# Altium integrated library PCB_Project.IntLib: 46 symbols
Pins are listed as number, name and electrical type; pins without a type are passive.

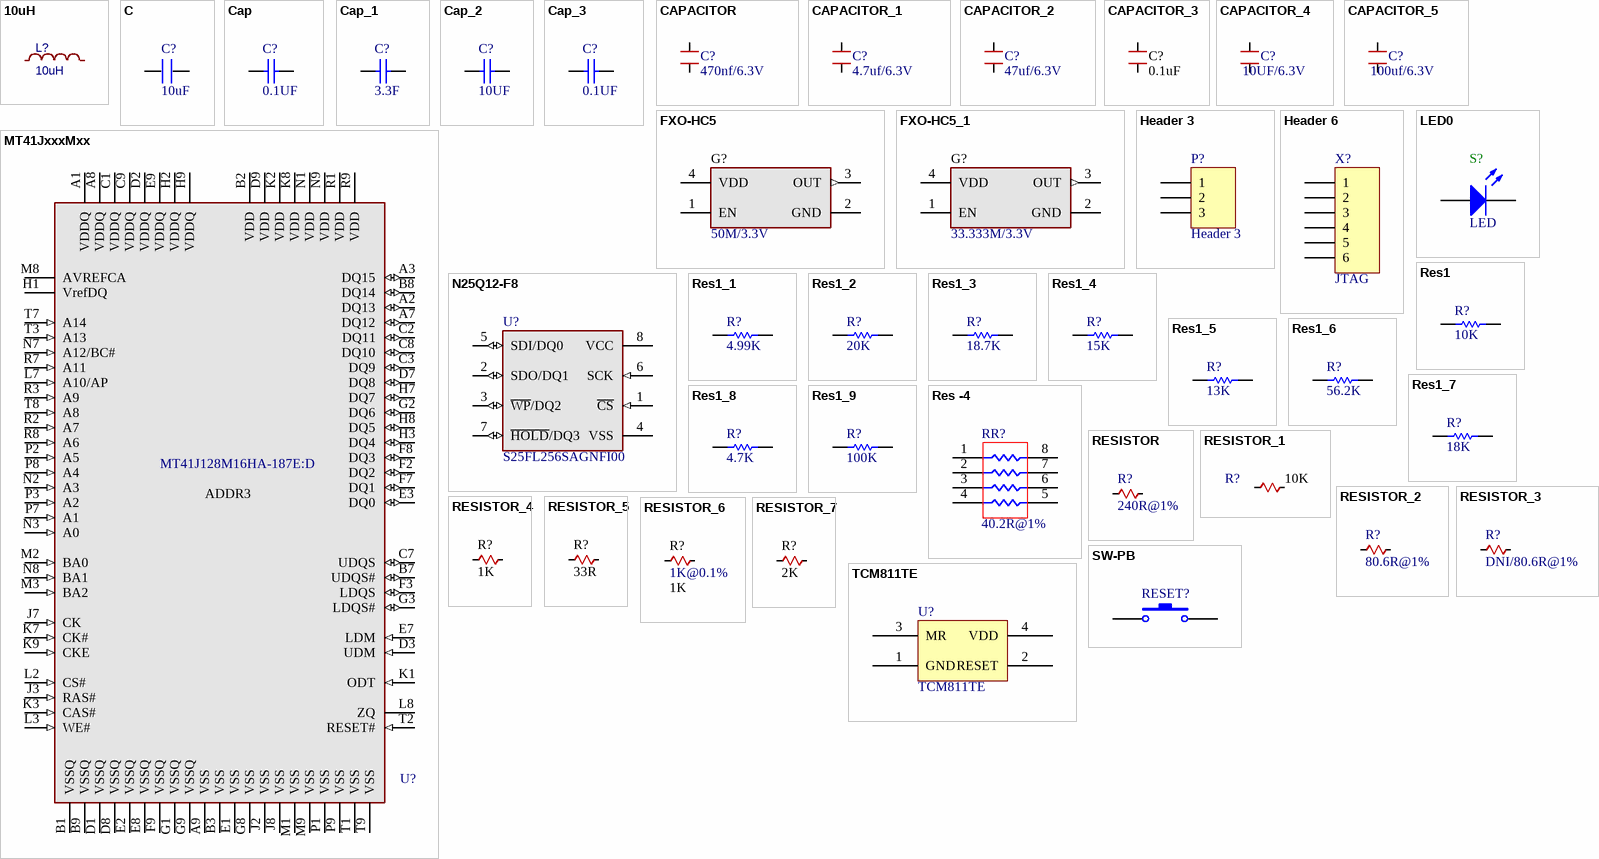
[diagram p0: symbols 10uH to TCM811TE]

## 10uH
designator L?
BOM_Manufacturer: Sunlord; BOM_Manufacturer Part: MPL2520S100MWT; nameAlias: Inductance; Contributor: LCSC; BOM_Supplier: LCSC; BOM_Supplier Part: C370039; spicePre: L; spiceSymbolName: MPL2520S100MWT
footprint L1008
pins: 1, 2

## C
designator C?, comment 10uF
footprint C0805
pins: 1, 2

## Cap
designator C?, comment 0.1UF
Capacitor; Value: 3.3nF; Published: 8-Jun-2000; LatestRevisionDate: 17-Jul-2002; LatestRevisionNote: Re-released for DXP Platform.; PackageReference: RAD-0.3; Publisher: Altium Limited; PackageDescription: Radial Cap, Thru-Hole; 2 Leads; 0.3 in Pin Spacing
simulation model CAP (Capacitor)
signal-integrity model Cap
footprint 0402 (Chip Capacitor, Body 1.0x0.5mm, IPC High Density)
pins: 1, 2

## Cap_1
designator C?, comment 3.3F
Capacitor; Value: 3.3nF; Published: 8-Jun-2000; LatestRevisionDate: 17-Jul-2002; LatestRevisionNote: Re-released for DXP Platform.; PackageReference: RAD-0.3; Publisher: Altium Limited; PackageDescription: Radial Cap, Thru-Hole; 2 Leads; 0.3 in Pin Spacing
simulation model CAP (Capacitor)
signal-integrity model Cap
footprint 0402 (Chip Capacitor, Body 1.0x0.5mm, IPC High Density)
pins: 1, 2

## Cap_2
designator C?, comment 10UF
Capacitor; Published: 8-Jun-2000; LatestRevisionDate: 17-Jul-2002; LatestRevisionNote: Re-released for DXP Platform.; PackageReference: RAD-0.3; Publisher: Altium Limited; PackageDescription: Radial Cap, Thru-Hole; 2 Leads; 0.3 in Pin Spacing; Value: 10UF
simulation model CAP (Capacitor)
signal-integrity model Cap
footprint 0402 (Chip Capacitor, Body 1.0x0.5mm, IPC High Density)
pins: 1, 2

## Cap_3
designator C?, comment 0.1UF
Capacitor; Published: 8-Jun-2000; LatestRevisionDate: 17-Jul-2002; LatestRevisionNote: Re-released for DXP Platform.; PackageReference: RAD-0.3; Publisher: Altium Limited; PackageDescription: Radial Cap, Thru-Hole; 2 Leads; 0.3 in Pin Spacing; Value: 0.1UF
simulation model CAP (Capacitor)
signal-integrity model Cap
footprint 0402 (Chip Capacitor, Body 1.0x0.5mm, IPC High Density)
pins: 1, 2

## CAPACITOR
designator C?, comment 470nf/6.3V
Generic Capacitor; DPN: *; Manufacturer: *
footprint 0402 (Chip Capacitor, Body 1.0x0.5mm, IPC High Density)
pins: 1, 2

## CAPACITOR_1
designator C?, comment 4.7uf/6.3V
Generic Capacitor; DPN: *; Manufacturer: *
footprint 0402 (Chip Capacitor, Body 1.0x0.5mm, IPC High Density)
pins: 1, 2

## CAPACITOR_2
designator C?, comment 47uf/6.3V
Generic Capacitor; DPN: *; Manufacturer: *
footprint 0402 (Chip Capacitor, Body 1.0x0.5mm, IPC High Density)
pins: 1, 2

## CAPACITOR_3
designator C?, comment 0.1UF
Generic Capacitor; DPN: *; Manufacturer: *; Value: 0.1uF
footprint 0402 (Chip Capacitor, Body 1.0x0.5mm, IPC High Density)
pins: 1, 2

## CAPACITOR_4
designator C?, comment 10UF/6.3V
Generic Capacitor; DPN: *; Manufacturer: *
footprint 0402 (Chip Capacitor, Body 1.0x0.5mm, IPC High Density)
pins: 1, 2

## CAPACITOR_5
designator C?, comment 100uf/6.3V
Generic Capacitor; DPN: *; Manufacturer: *
footprint 0805 (Footprint not found)
pins: 1, 2

## FXO-HC5
designator G?, comment 50M/3.3V
3.3V HCMOS Oscillator; Manufacturer: Fox Electronics; Value: 33.33MHz; DPN: *
footprint 3.2*2.5 (Footprint not found)
pins: 1 EN, 2 GND (power), 3 OUT (out), 4 VDD (power)

## FXO-HC5_1
designator G?, comment 33.333M/3.3V
3.3V HCMOS Oscillator; Manufacturer: Fox Electronics; Value: 33.33MHz; DPN: *
footprint 3.2*2.5 (Footprint not found)
pins: 1 EN, 2 GND (power), 3 OUT (out), 4 VDD (power)

## Header 3
designator P?
Header, 3-Pin; LatestRevisionDate: 17-Jul-2002; LatestRevisionNote: Re-released for DXP Platform.; Publisher: Altium Limited
footprint HDR1X3 (Connector; Header; 3 Position)
signal-integrity model Connector
pins: 1, 2, 3

## Header 6
designator X?, comment JTAG
Header, 6-Pin; LatestRevisionDate: 17-Jul-2002; LatestRevisionNote: Re-released for DXP Platform.; Publisher: Altium Limited
signal-integrity model 1.27*6
footprint 1.27*6 (Footprint not found)
pins: 1, 2, 3, 4, 5, 6

## LED0
designator S?, comment LED
Typical INFRARED GaAs LED; Published: 8-Jun-2000; LatestRevisionDate: 08-Jul-2005; LatestRevisionNote: Mech Layer 1 removed.; PackageReference: LED-0; Publisher: Altium Limited; PackageDescription: LED; 2 Leads
footprint LED-0 (LED; 2 Leads)
simulation model LED0 (Diode)
footprint 0603
footprint D0402 (Footprint not found)
pins: 1 A, 2 K

## MT41JxxxMxx
designator U?, comment MT41J128M16HA-187E:D
DDR3 SDRAM 2Gb x4, x8, x16; Manufacturer: Micron; DPN: *
footprint FBGA96
pins: A1 VDDQ (power), A2 DQ13 (io), A3 DQ15 (io), A7 DQ12 (io), A8 VDDQ (power), A9 VSS (power), B1 VSSQ (power), B2 VDD (power), B3 VSS (power), B7 UDQS# (io), B8 DQ14 (io), B9 VSSQ (power), C1 VDDQ (power), C2 DQ11 (io), C3 DQ9 (io), C7 UDQS (io), C8 DQ10 (io), C9 VDDQ (power), D1 VSSQ (power), D2 VDDQ (power), D3 UDM (in), D7 DQ8 (io), D8 VSSQ (power), D9 VDD (power), E1 VSS (power), E2 VSSQ (power), E3 DQ0 (io), E7 LDM (in), E8 VSSQ (power), E9 VDDQ (power), F2 DQ2 (io), F3 LDQS (io), F7 DQ1 (io), F8 DQ3 (io), F9 VSSQ (power), G1 VSSQ (power), G2 DQ6 (io), G3 LDQS# (io), G8 VSS (power), G9 VSSQ (power), H1 VrefDQ (power), H2 VDDQ (power), H3 DQ4 (io), H7 DQ7 (io), H8 DQ5 (io), H9 VDDQ (power), J2 VSS (power), J3 RAS# (in), J7 CK (in), J8 VSS (power), K1 ODT (in), K2 VDD (power), K3 CAS# (in), K7 CK# (in), K8 VDD (power), K9 CKE (in), L2 CS# (in), L3 WE# (in), L7 A10/AP (in), L8 ZQ, M1 VSS (power), M2 BA0 (in), M3 BA2 (in), M8 AVREFCA (power), M9 VSS (power), N1 VDD (power), N2 A3 (in), N3 A0 (in), N7 A12/BC# (in), N8 BA1 (in), N9 VDD (power), P1 VSS (power), P2 A5 (in), P3 A2 (in), P7 A1 (in), P8 A4 (in), P9 VSS (power), R1 VDD (power), R2 A7 (in), R3 A9 (in), R7 A11 (in), R8 A6 (in), R9 VDD (power), T1 VSS (power), T2 RESET# (in), T3 A13 (in), T7 A14 (in), T8 A8 (in), T9 VSS (power)
text: ADDR3

## N25Q12-F8
designator U?, comment S25FL256SAGNFI00
Serial Flash Memory, 16Mbit, Low Voltage, 50MHz SPI Bus Interface; Manufacturer: Spansion; DPN: *
footprint MLP8
pins: 1 ~{CS} (in), 2 SDO/DQ1 (io), 3 ~{WP}/DQ2 (io), 4 VSS (power), 5 SDI/DQ0 (io), 6 SCK (in), 7 ~{HOLD}/DQ3 (io), 8 VCC (power)

## Res1
designator R?, comment 10K
Resistor; Published: 8-Jun-2000; LatestRevisionDate: 17-Jul-2002; LatestRevisionNote: Re-released for DXP Platform.; PackageReference: AXIAL-0.3; Publisher: Altium Limited; PackageDescription: Axial Device, Thru-Hole; 2 Leads; 0.3 in Pin Spacing; Value: 10K
footprint 0402 (Chip Capacitor, Body 1.0x0.5mm, IPC High Density)
simulation model RESISTOR (Resistor)
signal-integrity model Res
pins: 1, 2

## Res1_1
designator R?, comment 4.99K
Resistor; Published: 8-Jun-2000; LatestRevisionDate: 17-Jul-2002; LatestRevisionNote: Re-released for DXP Platform.; PackageReference: AXIAL-0.3; Publisher: Altium Limited; PackageDescription: Axial Device, Thru-Hole; 2 Leads; 0.3 in Pin Spacing; Value: 4.99K
footprint 0402 (Chip Capacitor, Body 1.0x0.5mm, IPC High Density)
simulation model RESISTOR (Resistor)
signal-integrity model Res
pins: 1, 2

## Res1_2
designator R?, comment 20K
Resistor; Published: 8-Jun-2000; LatestRevisionDate: 17-Jul-2002; LatestRevisionNote: Re-released for DXP Platform.; PackageReference: AXIAL-0.3; Publisher: Altium Limited; PackageDescription: Axial Device, Thru-Hole; 2 Leads; 0.3 in Pin Spacing; Value: 20K
footprint 0402 (Chip Capacitor, Body 1.0x0.5mm, IPC High Density)
simulation model RESISTOR (Resistor)
signal-integrity model Res
pins: 1, 2

## Res1_3
designator R?, comment value 18.7K  (hidden comment: 4.99K)
Resistor; Published: 8-Jun-2000; LatestRevisionDate: 17-Jul-2002; LatestRevisionNote: Re-released for DXP Platform.; PackageReference: AXIAL-0.3; Publisher: Altium Limited; PackageDescription: Axial Device, Thru-Hole; 2 Leads; 0.3 in Pin Spacing
footprint 0402 (Chip Capacitor, Body 1.0x0.5mm, IPC High Density)
simulation model RESISTOR (Resistor)
signal-integrity model Res
pins: 1, 2

## Res1_4
designator R?, comment 15K
Resistor; Published: 8-Jun-2000; LatestRevisionDate: 17-Jul-2002; LatestRevisionNote: Re-released for DXP Platform.; PackageReference: AXIAL-0.3; Publisher: Altium Limited; PackageDescription: Axial Device, Thru-Hole; 2 Leads; 0.3 in Pin Spacing; Value: 15K
footprint 0402 (Chip Capacitor, Body 1.0x0.5mm, IPC High Density)
simulation model RESISTOR (Resistor)
signal-integrity model Res
pins: 1, 2

## Res1_5
designator R?, comment value 13K  (hidden comment: 4.99K)
Resistor; Published: 8-Jun-2000; LatestRevisionDate: 17-Jul-2002; LatestRevisionNote: Re-released for DXP Platform.; PackageReference: AXIAL-0.3; Publisher: Altium Limited; PackageDescription: Axial Device, Thru-Hole; 2 Leads; 0.3 in Pin Spacing
footprint 0402 (Chip Capacitor, Body 1.0x0.5mm, IPC High Density)
simulation model RESISTOR (Resistor)
signal-integrity model Res
pins: 1, 2

## Res1_6
designator R?, comment value 56.2K  (hidden comment: 4.99K)
Resistor; Published: 8-Jun-2000; LatestRevisionDate: 17-Jul-2002; LatestRevisionNote: Re-released for DXP Platform.; PackageReference: AXIAL-0.3; Publisher: Altium Limited; PackageDescription: Axial Device, Thru-Hole; 2 Leads; 0.3 in Pin Spacing
footprint 0402 (Chip Capacitor, Body 1.0x0.5mm, IPC High Density)
simulation model RESISTOR (Resistor)
signal-integrity model Res
pins: 1, 2

## Res1_7
designator R?, comment value 18K  (hidden comment: 15K)
Resistor; Published: 8-Jun-2000; LatestRevisionDate: 17-Jul-2002; LatestRevisionNote: Re-released for DXP Platform.; PackageReference: AXIAL-0.3; Publisher: Altium Limited; PackageDescription: Axial Device, Thru-Hole; 2 Leads; 0.3 in Pin Spacing
footprint 0402 (Chip Capacitor, Body 1.0x0.5mm, IPC High Density)
simulation model RESISTOR (Resistor)
signal-integrity model Res
pins: 1, 2

## Res1_8
designator R?, comment value 4.7K  (hidden comment: 1K)
Resistor; Published: 8-Jun-2000; LatestRevisionDate: 17-Jul-2002; LatestRevisionNote: Re-released for DXP Platform.; PackageReference: AXIAL-0.3; Publisher: Altium Limited; PackageDescription: Axial Device, Thru-Hole; 2 Leads; 0.3 in Pin Spacing
footprint 0402 (Chip Capacitor, Body 1.0x0.5mm, IPC High Density)
simulation model RESISTOR (Resistor)
signal-integrity model Res
pins: 1, 2

## Res1_9
designator R?, comment value 100K  (hidden comment: 1K)
Resistor; Published: 8-Jun-2000; LatestRevisionDate: 17-Jul-2002; LatestRevisionNote: Re-released for DXP Platform.; PackageReference: AXIAL-0.3; Publisher: Altium Limited; PackageDescription: Axial Device, Thru-Hole; 2 Leads; 0.3 in Pin Spacing
footprint 0402 (Chip Capacitor, Body 1.0x0.5mm, IPC High Density)
simulation model RESISTOR (Resistor)
signal-integrity model Res
pins: 1, 2

## Res -4
designator RR?, comment 40.2R@1%
Isolated Resistor Network; Published: 24-Mar-1999; LatestRevisionDate: 29-May-2009; LatestRevisionNote: IPC-7351 Footprint Added.; PackageReference: SO-16; Publisher: Altium Limited; PackageDescription: 16-Pin Small Outline Integrated Circuit 1.27 mm Pitch; Code_JEDEC: MS-012-AC; Code_IPC: SOIC127P600-16
footprint R0402*4 (Footprint not found)
pins: 1, 2, 3, 4, 5, 6, 7, 8

## RESISTOR
designator R?, comment 240R@1%
Generic Resistor; Value: 240R; Manufacturer: *; DPN: *
footprint 0402 (Chip Capacitor, Body 1.0x0.5mm, IPC High Density)
pins: 1, 2

## RESISTOR_1
designator R?, comment 10K
Generic Resistor; Manufacturer: *; DPN: *; Value: 10K
footprint 0402 (Chip Capacitor, Body 1.0x0.5mm, IPC High Density)
pins: 1, 2

## RESISTOR_2
designator R?, comment 80.6R@1%
Generic Resistor; Value: 80.6R; Manufacturer: *; DPN: *
footprint 0402 (Chip Capacitor, Body 1.0x0.5mm, IPC High Density)
pins: 1, 2

## RESISTOR_3
designator R?, comment DNI/80.6R@1%
Generic Resistor; Value: 80.6R; Manufacturer: *; DPN: *
footprint 0402 (Chip Capacitor, Body 1.0x0.5mm, IPC High Density)
pins: 1, 2

## RESISTOR_4
designator R?, comment 1K
Generic Resistor; Manufacturer: *; DPN: *; Value: 1K
footprint 0402 (Chip Capacitor, Body 1.0x0.5mm, IPC High Density)
pins: 1, 2

## RESISTOR_5
designator R?, comment 33R
Generic Resistor; Manufacturer: *; DPN: *; Value: 33R
footprint 0402 (Chip Capacitor, Body 1.0x0.5mm, IPC High Density)
pins: 1, 2

## RESISTOR_6
designator R?, comment 1K@0.1%  value 1K
Generic Resistor; Manufacturer: *; DPN: *
footprint 0402 (Chip Capacitor, Body 1.0x0.5mm, IPC High Density)
pins: 1, 2

## RESISTOR_7
designator R?, comment value 2K  (hidden comment: 1K)
Generic Resistor; Manufacturer: *; DPN: *
footprint 0402 (Chip Capacitor, Body 1.0x0.5mm, IPC High Density)
pins: 1, 2

## SW-PB
designator RESET?  (value not drawn)
Switch; Published: 24-Mar-1999; LatestRevisionDate: 17-Jul-2002; LatestRevisionNote: Re-released for DXP Platform.; PackageReference: SPST-2; Publisher: Altium Limited; PackageDescription: Switch; 2 Leads
footprint SPST-2 (Switch; 2 Leads)
footprint 3*6*2.5按键
footprint micro button_2_SMD
pins: 1, 2

## TCM811TE
designator U?
footprint TCM811TERCTR
pins: 1 GND, 2 RESET, 3 MR, 4 VDD

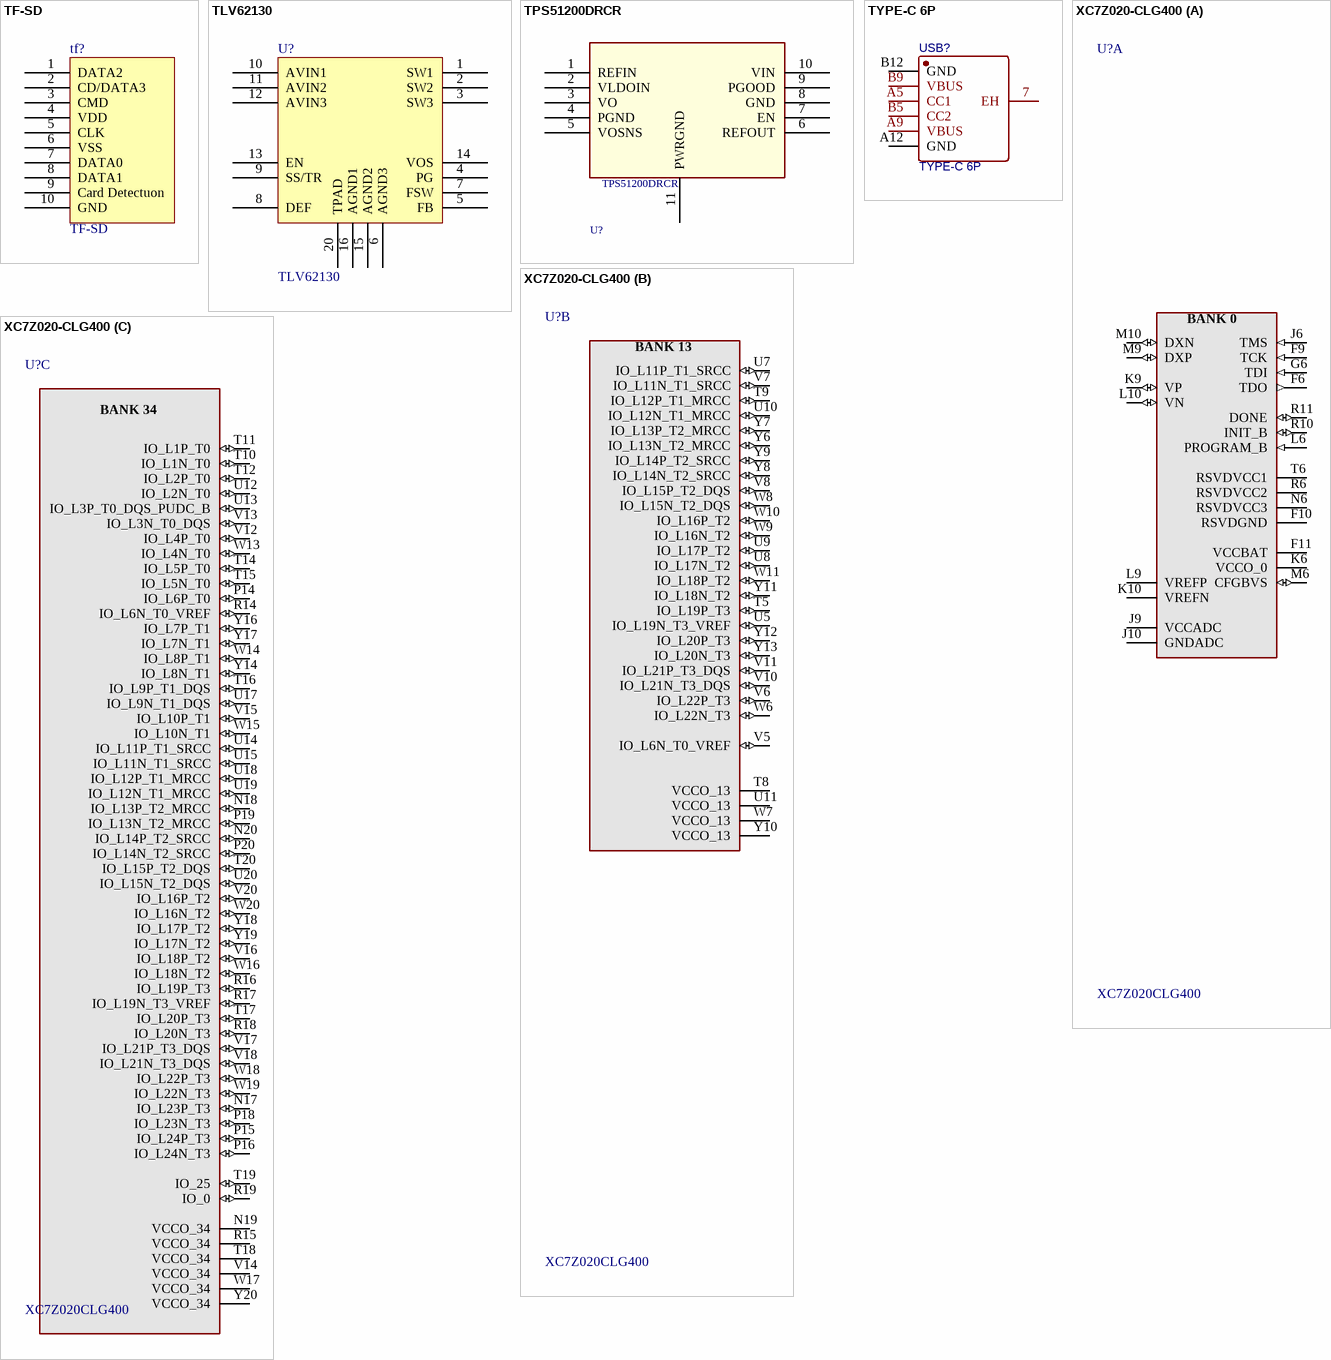
[diagram p1: symbols TF-SD to XC7Z020-CLG400]

## TF-SD
designator tf?
Parameter 1: *
footprint TF
pins: 1 DATA2, 2 CD/DATA3, 3 CMD, 4 VDD, 5 CLK, 6 VSS, 7 DATA0, 8 DATA1, 9 Card Detectuon, 10 GND

## TLV62130
designator U?
footprint TLV62130RGT
pins: 1 SW1, 2 SW2, 3 SW3, 4 PG, 5 FB, 6 AGND3, 7 FSW, 8 DEF, 9 SS/TR, 10 AVIN1, 11 AVIN2, 12 AVIN3, 13 EN, 14 VOS, 15 AGND2, 16 AGND1, 20 TPAD

## TPS51200DRCR
designator U?
footprint TPS_QFN10
pins: 1 REFIN, 2 VLDOIN, 3 VO, 4 PGND, 5 VOSNS, 6 REFOUT, 7 EN, 8 GND, 9 PGOOD, 10 VIN, 11 PWRGND

## TYPE-C 6P
designator USB?
BOM_Manufacturer: SHOU HAN; Contributor: LCSC; BOM_Supplier: LCSC; BOM_Supplier Part: C456012; BOM_Manufacturer Part: TYPE-C 6P; spicePre: U; spiceSymbolName: TYPE-C 6P
footprint TYPE-C-SMD_TYPE-C-6P
pins: 7 EH, A5 CC1, A9 VBUS, A12 GND, B5 CC2, B9 VBUS, B12 GND

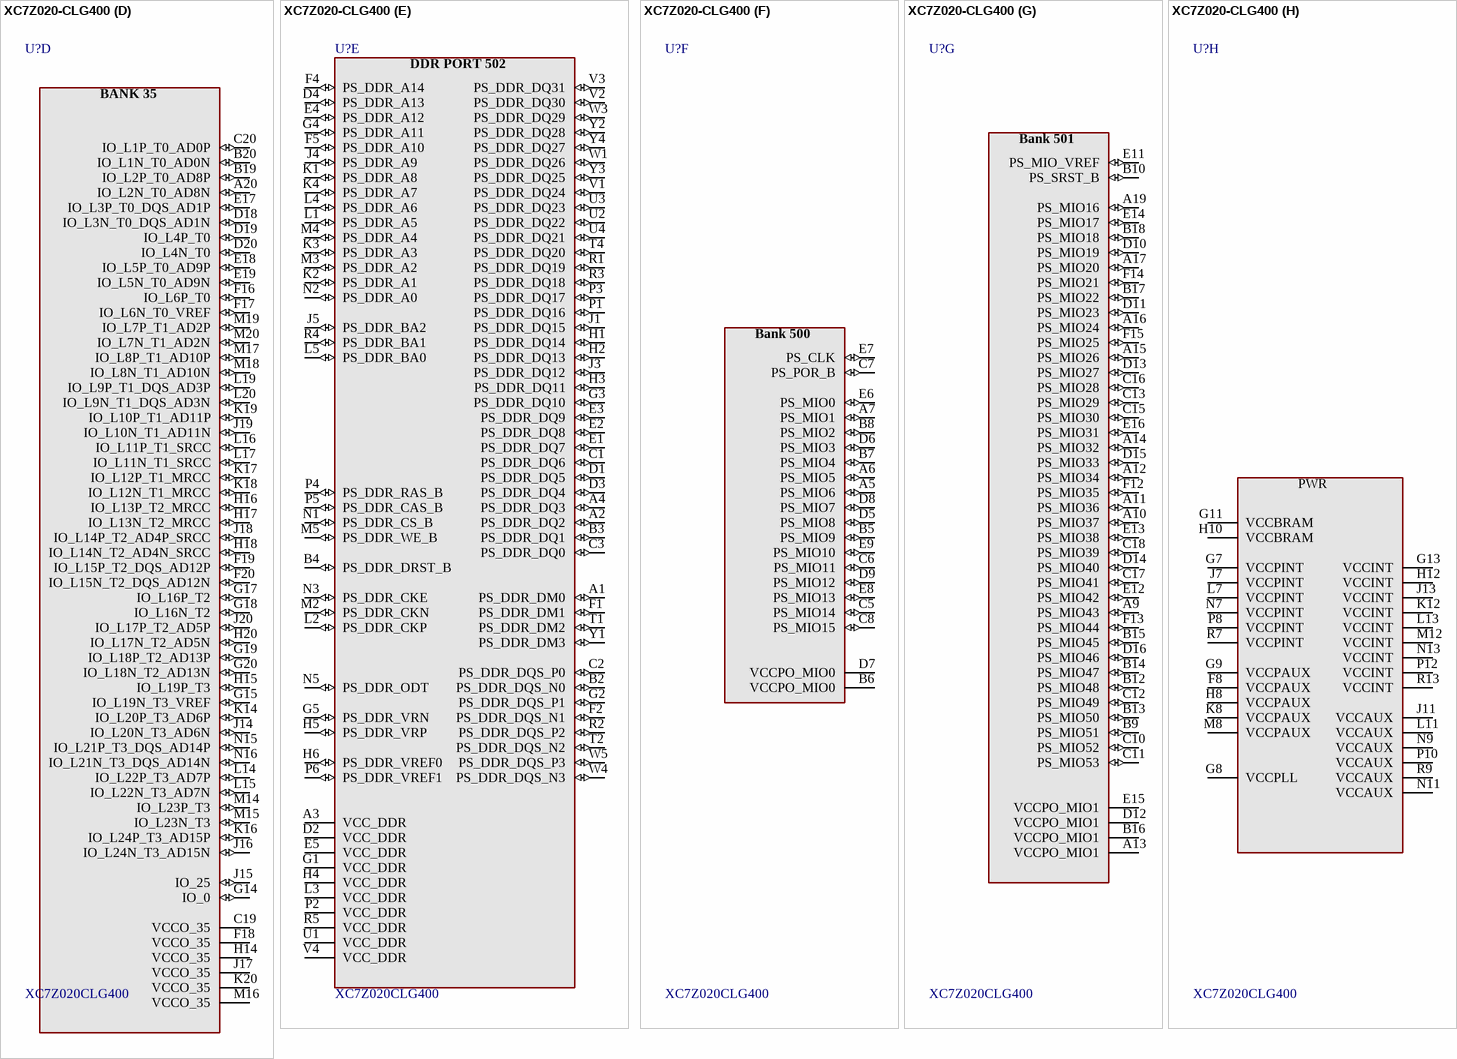
[diagram p2: symbol XC7Z020-CLG400]

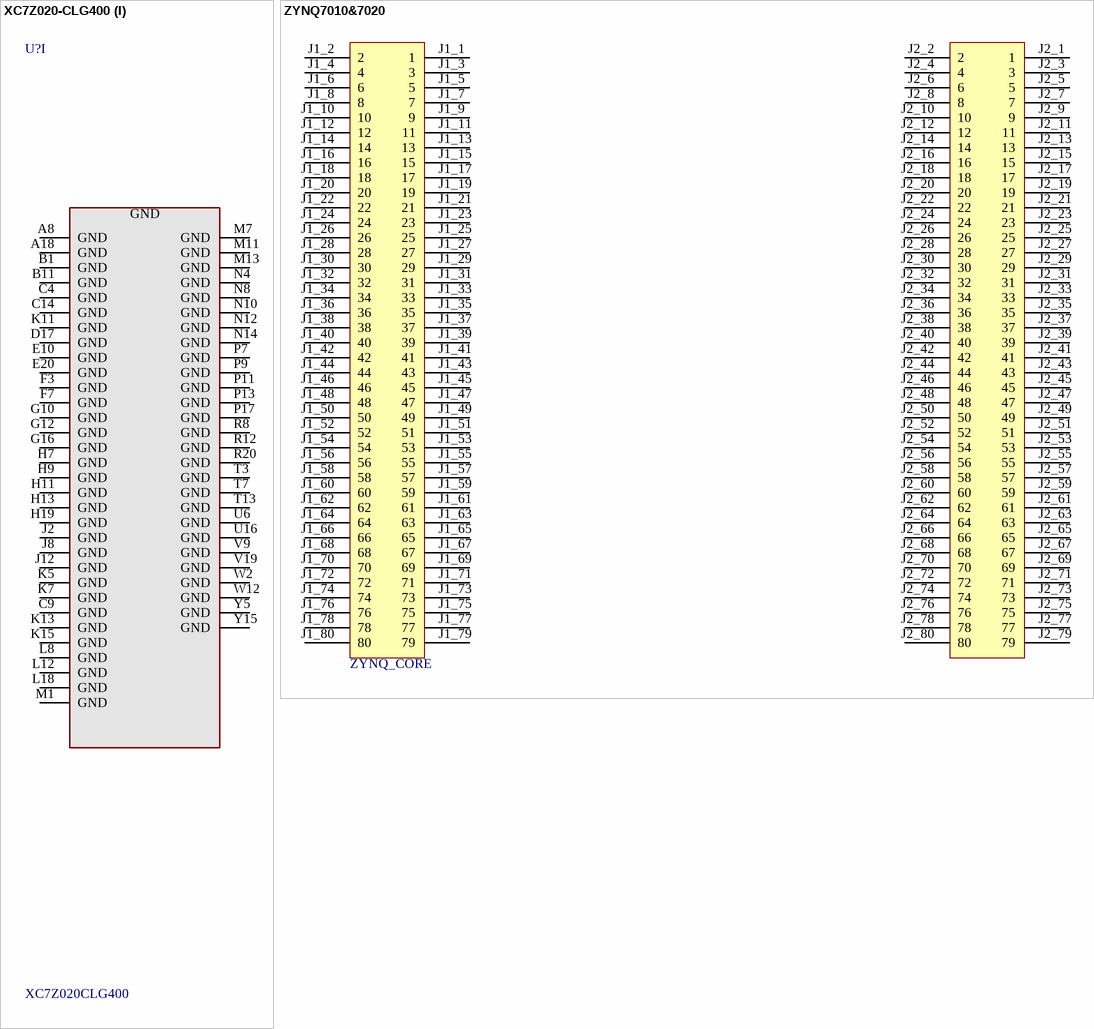
[diagram p3: symbols XC7Z020-CLG400 to ZYNQ7010&7020]

## XC7Z020-CLG400
designator U?, comment XC7Z020CLG400
Zynq 7000 FPGA 20 Die, in a CSG 484 Package; Manufacturer: Xilinx; DPN: *; Die: *
footprint CLG400 (Footprint not found)
part A pins: F6 TDO (out), F9 TCK (in), F10 RSVDGND (power), F11 VCCBAT, G6 TDI (in), J6 TMS (in), J9 VCCADC, J10 GNDADC, K6 VCCO_0 (power) "Bank 0 Power Pin", K9 VP (io) "General I/O", K10 VREFN, L6 PROGRAM_B (in), L9 VREFP, L10 VN (io) "General I/O", M6 CFGBVS (io), M9 DXP (io) "DXP Pin", M10 DXN (io) "DXN Pin", N6 RSVDVCC3 (power), R6 RSVDVCC2 (power), R10 INIT_B (io) "Programing Initialization Pin", R11 DONE (io) "Programing Done Pin", T6 RSVDVCC1 (power)
part B pins: T5 IO_L19P_T3 (io) "General IO Pin", T8 VCCO_13 (power) "Bank 13 Power Pin", T9 IO_L12P_T1_MRCC (io) "General IO Pin", U5 IO_L19N_T3_VREF (io) "General IO Pin", U7 IO_L11P_T1_SRCC (io) "General IO Pin", U8 IO_L17N_T2 (io) "General IO Pin", U9 IO_L17P_T2 (io) "General IO Pin", U10 IO_L12N_T1_MRCC (io) "General IO Pin", U11 VCCO_13 (power) "Bank 13 Power Pin", V5 IO_L6N_T0_VREF (io) "General IO Pin", V6 IO_L22P_T3 (io) "General IO Pin", V7 IO_L11N_T1_SRCC (io) "General IO Pin", V8 IO_L15P_T2_DQS (io) "General IO Pin", V10 IO_L21N_T3_DQS (io) "General IO Pin", V11 IO_L21P_T3_DQS (io) "General IO Pin", W6 IO_L22N_T3 (io) "General IO Pin", W7 VCCO_13 (power) "Bank 13 Power Pin", W8 IO_L15N_T2_DQS (io) "General IO Pin", W9 IO_L16N_T2 (io) "General IO Pin", W10 IO_L16P_T2 (io) "General IO Pin", W11 IO_L18P_T2 (io) "General IO Pin", Y6 IO_L13N_T2_MRCC (io) "General IO Pin", Y7 IO_L13P_T2_MRCC (io) "General IO Pin", Y8 IO_L14N_T2_SRCC (io) "General IO Pin", Y9 IO_L14P_T2_SRCC (io) "General IO Pin", Y10 VCCO_13 (power) "Bank 13 Power Pin", Y11 IO_L18N_T2 (io) "General IO Pin", Y12 IO_L20P_T3 (io) "General IO Pin", Y13 IO_L20N_T3 (io) "General IO Pin"
part C pins: N17 IO_L23P_T3 (io) "General IO Pin", N18 IO_L13P_T2_MRCC (io) "General IO Pin", N19 VCCO_34 (power) "Bank 34 Power Pin", N20 IO_L14P_T2_SRCC (io) "General IO Pin", P14 IO_L6P_T0 (io) "General IO Pin", P15 IO_L24P_T3 (io) "General IO Pin", P16 IO_L24N_T3 (io) "General IO Pin", P18 IO_L23N_T3 (io) "General IO Pin", P19 IO_L13N_T2_MRCC (io) "General IO Pin", P20 IO_L14N_T2_SRCC (io) "General IO Pin", R14 IO_L6N_T0_VREF (io) "General IO Pin", R15 VCCO_34 (power) "Bank 34 Power Pin", R16 IO_L19P_T3 (io) "General IO Pin", R17 IO_L19N_T3_VREF (io) "General IO Pin", R18 IO_L20N_T3 (io) "General IO Pin", R19 IO_0 (io) "General IO Pin", T10 IO_L1N_T0 (io) "General IO Pin", T11 IO_L1P_T0 (io) "General IO Pin", T12 IO_L2P_T0 (io) "General IO Pin", T14 IO_L5P_T0 (io) "General IO Pin", T15 IO_L5N_T0 (io) "General IO Pin", T16 IO_L9P_T1_DQS (io) "General IO Pin", T17 IO_L20P_T3 (io) "General IO Pin", T18 VCCO_34 (power) "Bank 34 Power Pin", T19 IO_25 (io) "General IO Pin", T20 IO_L15P_T2_DQS (io) "General IO Pin", U12 IO_L2N_T0 (io) "General IO Pin", U13 IO_L3P_T0_DQS_PUDC_B (io) "General IO Pin", U14 IO_L11P_T1_SRCC (io) "General IO Pin", U15 IO_L11N_T1_SRCC (io) "General IO Pin", U17 IO_L9N_T1_DQS (io) "General IO Pin", U18 IO_L12P_T1_MRCC (io) "General IO Pin", U19 IO_L12N_T1_MRCC (io) "General IO Pin", U20 IO_L15N_T2_DQS (io) "General IO Pin", V12 IO_L4P_T0 (io) "General IO Pin", V13 IO_L3N_T0_DQS (io) "General IO Pin", V14 VCCO_34 (power) "Bank 34 Power Pin", V15 IO_L10P_T1 (io) "General IO Pin", V16 IO_L18P_T2 (io) "General IO Pin", V17 IO_L21P_T3_DQS (io) "General IO Pin", V18 IO_L21N_T3_DQS (io) "General IO Pin", V20 IO_L16P_T2 (io) "General IO Pin", W13 IO_L4N_T0 (io) "General IO Pin", W14 IO_L8P_T1 (io) "General IO Pin", W15 IO_L10N_T1 (io) "General IO Pin", W16 IO_L18N_T2 (io) "General IO Pin", W17 VCCO_34 (power) "Bank 34 Power Pin", W18 IO_L22P_T3 (io) "General IO Pin", W19 IO_L22N_T3 (io) "General IO Pin", W20 IO_L16N_T2 (io) "General IO Pin", Y14 IO_L8N_T1 (io) "General IO Pin", Y16 IO_L7P_T1 (io) "General IO Pin", Y17 IO_L7N_T1 (io) "General IO Pin", Y18 IO_L17P_T2 (io) "General IO Pin", Y19 IO_L17N_T2 (io) "General IO Pin", Y20 VCCO_34 (power) "Bank 34 Power Pin"
part D pins: A20 IO_L2N_T0_AD8N (io) "General IO Pin", B19 IO_L2P_T0_AD8P (io) "General IO Pin", B20 IO_L1N_T0_AD0N (io) "General IO Pin", C19 VCCO_35 (power) "Bank 35 Power Pin", C20 IO_L1P_T0_AD0P (io) "General IO Pin", D18 IO_L3N_T0_DQS_AD1N (io) "General IO Pin", D19 IO_L4P_T0 (io) "General IO Pin", D20 IO_L4N_T0 (io) "General IO Pin", E17 IO_L3P_T0_DQS_AD1P (io) "General IO Pin", E18 IO_L5P_T0_AD9P (io) "General IO Pin", E19 IO_L5N_T0_AD9N (io) "General IO Pin", F16 IO_L6P_T0 (io) "General IO Pin", F17 IO_L6N_T0_VREF (io) "General IO Pin", F18 VCCO_35 (power) "Bank 35 Power Pin", F19 IO_L15P_T2_DQS_AD12P (io) "General IO Pin", F20 IO_L15N_T2_DQS_AD12N (io) "General IO Pin", G14 IO_0 (io) "General IO Pin", G15 IO_L19N_T3_VREF (io) "General IO Pin", G17 IO_L16P_T2 (io) "General IO Pin", G18 IO_L16N_T2 (io) "General IO Pin", G19 IO_L18P_T2_AD13P (io) "General IO Pin", G20 IO_L18N_T2_AD13N (io) "General IO Pin", H14 VCCO_35 (power) "Bank 35 Power Pin", H15 IO_L19P_T3 (io) "General IO Pin", H16 IO_L13P_T2_MRCC (io) "General IO Pin", H17 IO_L13N_T2_MRCC (io) "General IO Pin", H18 IO_L14N_T2_AD4N_SRCC (io) "General IO Pin", H20 IO_L17N_T2_AD5N (io) "General IO Pin", J14 IO_L20N_T3_AD6N (io) "General IO Pin", J15 IO_25 (io) "General IO Pin", J16 IO_L24N_T3_AD15N (io) "General IO Pin", J17 VCCO_35 (power) "Bank 35 Power Pin", J18 IO_L14P_T2_AD4P_SRCC (io) "General IO Pin", J19 IO_L10N_T1_AD11N (io) "General IO Pin", J20 IO_L17P_T2_AD5P (io) "General IO Pin", K14 IO_L20P_T3_AD6P (io) "General IO Pin", K16 IO_L24P_T3_AD15P (io) "General IO Pin", K17 IO_L12P_T1_MRCC (io) "General IO Pin", K18 IO_L12N_T1_MRCC (io) "General IO Pin", K19 IO_L10P_T1_AD11P (io) "General IO Pin", K20 VCCO_35 (power) "Bank 35 Power Pin", L14 IO_L22P_T3_AD7P (io) "General IO Pin", L15 IO_L22N_T3_AD7N (io) "General IO Pin", L16 IO_L11P_T1_SRCC (io) "General IO Pin", L17 IO_L11N_T1_SRCC (io) "General IO Pin", L19 IO_L9P_T1_DQS_AD3P (io) "General IO Pin", L20 IO_L9N_T1_DQS_AD3N (io) "General IO Pin", M14 IO_L23P_T3 (io) "General IO Pin", M15 IO_L23N_T3 (io) "General IO Pin", M16 VCCO_35 (power) "Bank 35 Power Pin", M17 IO_L8P_T1_AD10P (io) "General IO Pin", M18 IO_L8N_T1_AD10N (io) "General IO Pin", M19 IO_L7P_T1_AD2P (io) "General IO Pin", M20 IO_L7N_T1_AD2N (io) "General IO Pin", N15 IO_L21P_T3_DQS_AD14P (io) "General IO Pin", N16 IO_L21N_T3_DQS_AD14N (io) "General IO Pin"
part E pins: A1 PS_DDR_DM0 (io) "DDR Pin", A2 PS_DDR_DQ2 (io) "DDR Pin", A3 VCC_DDR (power) "DDR Power Pin", A4 PS_DDR_DQ3 (io) "DDR Pin", B2 PS_DDR_DQS_N0 (io) "DDR Pin", B3 PS_DDR_DQ1 (io) "DDR Pin", B4 PS_DDR_DRST_B (io) "DDR Pin", C1 PS_DDR_DQ6 (io) "DDR Pin", C2 PS_DDR_DQS_P0 (io) "DDR Pin", C3 PS_DDR_DQ0 (io) "DDR Pin", D1 PS_DDR_DQ5 (io) "DDR Pin", D2 VCC_DDR (power) "DDR Power Pin", D3 PS_DDR_DQ4 (io) "DDR Pin", D4 PS_DDR_A13 (io) "DDR Pin", E1 PS_DDR_DQ7 (io) "DDR Pin", E2 PS_DDR_DQ8 (io) "DDR Pin", E3 PS_DDR_DQ9 (io) "DDR Pin", E4 PS_DDR_A12 (io) "DDR Pin", E5 VCC_DDR (power) "DDR Power Pin", F1 PS_DDR_DM1 (io) "DDR Pin", F2 PS_DDR_DQS_N1 (io) "DDR Pin", F4 PS_DDR_A14 (io) "DDR Pin", F5 PS_DDR_A10 (io) "DDR Pin", G1 VCC_DDR (power) "DDR Power Pin", G2 PS_DDR_DQS_P1 (io) "DDR Pin", G3 PS_DDR_DQ10 (io) "DDR Pin", G4 PS_DDR_A11 (io) "DDR Pin", G5 PS_DDR_VRN (io) "DDR Pin", H1 PS_DDR_DQ14 (io) "DDR Pin", H2 PS_DDR_DQ13 (io) "DDR Pin", H3 PS_DDR_DQ11 (io) "DDR Pin", H4 VCC_DDR (power) "DDR Power Pin", H5 PS_DDR_VRP (io) "DDR Pin", H6 PS_DDR_VREF0 (io) "DDR Pin", J1 PS_DDR_DQ15 (io) "DDR Pin", J3 PS_DDR_DQ12 (io) "DDR Pin", J4 PS_DDR_A9 (io) "DDR Pin", J5 PS_DDR_BA2 (io) "DDR Pin", K1 PS_DDR_A8 (io) "DDR Pin", K2 PS_DDR_A1 (io) "DDR Pin", K3 PS_DDR_A3 (io) "DDR Pin", K4 PS_DDR_A7 (io) "DDR Pin", L1 PS_DDR_A5 (io) "DDR Pin", L2 PS_DDR_CKP (io) "DDR Pin", L3 VCC_DDR (power) "DDR Power Pin", L4 PS_DDR_A6 (io) "DDR Pin", L5 PS_DDR_BA0 (io) "DDR Pin", M2 PS_DDR_CKN (io) "DDR Pin", M3 PS_DDR_A2 (io) "DDR Pin", M4 PS_DDR_A4 (io) "DDR Pin", M5 PS_DDR_WE_B (io) "DDR Pin", N1 PS_DDR_CS_B (io) "DDR Pin", N2 PS_DDR_A0 (io) "DDR Pin", N3 PS_DDR_CKE (io) "DDR Pin", N5 PS_DDR_ODT (io) "DDR Pin", P1 PS_DDR_DQ16 (io) "DDR Pin", P2 VCC_DDR (power) "DDR Power Pin", P3 PS_DDR_DQ17 (io) "DDR Pin", P4 PS_DDR_RAS_B (io) "DDR Pin", P5 PS_DDR_CAS_B (io) "DDR Pin", P6 PS_DDR_VREF1 (io) "DDR Pin", R1 PS_DDR_DQ19 (io) "DDR Pin", R2 PS_DDR_DQS_P2 (io) "DDR Pin", R3 PS_DDR_DQ18 (io) "DDR Pin", R4 PS_DDR_BA1 (io) "DDR Pin", R5 VCC_DDR (power) "DDR Power Pin", T1 PS_DDR_DM2 (io) "DDR Pin", T2 PS_DDR_DQS_N2 (io) "DDR Pin", T4 PS_DDR_DQ20 (io) "DDR Pin", U1 VCC_DDR (power) "DDR Power Pin", U2 PS_DDR_DQ22 (io) "DDR Pin", U3 PS_DDR_DQ23 (io) "DDR Pin", U4 PS_DDR_DQ21 (io) "DDR Pin", V1 PS_DDR_DQ24 (io) "DDR Pin", V2 PS_DDR_DQ30 (io) "DDR Pin", V3 PS_DDR_DQ31 (io) "DDR Pin", V4 VCC_DDR (power) "DDR Power Pin", W1 PS_DDR_DQ26 (io) "DDR Pin", W3 PS_DDR_DQ29 (io) "DDR Pin", W4 PS_DDR_DQS_N3 (io) "DDR Pin", W5 PS_DDR_DQS_P3 (io) "DDR Pin", Y1 PS_DDR_DM3 (io) "DDR Pin", Y2 PS_DDR_DQ28 (io) "DDR Pin", Y3 PS_DDR_DQ25 (io) "DDR Pin", Y4 PS_DDR_DQ27 (io) "DDR Pin"
part F pins: A5 PS_MIO6 (io) "MIO Pin", A6 PS_MIO5 (io) "MIO Pin", A7 PS_MIO1 (io) "MIO Pin", B5 PS_MIO9 (io) "MIO Pin", B6 VCCPO_MIO0 (power), B7 PS_MIO4 (io) "MIO Pin", B8 PS_MIO2 (io) "MIO Pin", C5 PS_MIO14 (io) "MIO Pin", C6 PS_MIO11 (io) "MIO Pin", C7 PS_POR_B (io) "MIO Pin", C8 PS_MIO15 (io) "MIO Pin", D5 PS_MIO8 (io) "MIO Pin", D6 PS_MIO3 (io) "MIO Pin", D7 VCCPO_MIO0 (power), D8 PS_MIO7 (io) "MIO Pin", D9 PS_MIO12 (io) "MIO Pin", E6 PS_MIO0 (io) "MIO Pin", E7 PS_CLK (io) "General IO Pin", E8 PS_MIO13 (io) "MIO Pin", E9 PS_MIO10 (io) "MIO Pin"
part G pins: A9 PS_MIO43 (io) "MIO Pin", A10 PS_MIO37 (io) "MIO Pin", A11 PS_MIO36 (io) "MIO Pin", A12 PS_MIO34 (io) "MIO Pin", A13 VCCPO_MIO1 (power), A14 PS_MIO32 (io) "MIO Pin", A15 PS_MIO26 (io) "MIO Pin", A16 PS_MIO24 (io) "MIO Pin", A17 PS_MIO20 (io) "MIO Pin", A19 PS_MIO16 (io) "MIO Pin", B9 PS_MIO51 (io) "MIO Pin", B10 PS_SRST_B (io) "MIO Pin", B12 PS_MIO48 (io) "MIO Pin", B13 PS_MIO50 (io) "MIO Pin", B14 PS_MIO47 (io) "MIO Pin", B15 PS_MIO45 (io) "MIO Pin", B16 VCCPO_MIO1 (power), B17 PS_MIO22 (io) "MIO Pin", B18 PS_MIO18 (io) "MIO Pin", C10 PS_MIO52 (io) "MIO Pin", C11 PS_MIO53 (io) "MIO Pin", C12 PS_MIO49 (io) "MIO Pin", C13 PS_MIO29 (io) "MIO Pin", C15 PS_MIO30 (io) "MIO Pin", C16 PS_MIO28 (io) "MIO Pin", C17 PS_MIO41 (io) "MIO Pin", C18 PS_MIO39 (io) "MIO Pin", D10 PS_MIO19 (io) "MIO Pin", D11 PS_MIO23 (io) "MIO Pin", D12 VCCPO_MIO1 (power), D13 PS_MIO27 (io) "MIO Pin", D14 PS_MIO40 (io) "MIO Pin", D15 PS_MIO33 (io) "MIO Pin", D16 PS_MIO46 (io) "MIO Pin", E11 PS_MIO_VREF (io) "MIO Pin", E12 PS_MIO42 (io) "MIO Pin", E13 PS_MIO38 (io) "MIO Pin", E14 PS_MIO17 (io) "MIO Pin", E15 VCCPO_MIO1 (power), E16 PS_MIO31 (io) "MIO Pin", F12 PS_MIO35 (io) "MIO Pin", F13 PS_MIO44 (io) "MIO Pin", F14 PS_MIO21 (io) "MIO Pin", F15 PS_MIO25 (io) "MIO Pin"
part H pins: F8 VCCPAUX (power), G7 VCCPINT (power), G8 VCCPLL (power), G9 VCCPAUX (power), G11 VCCBRAM (power), G13 VCCINT (power), H8 VCCPAUX (power), H10 VCCBRAM (power), H12 VCCINT (power), J7 VCCPINT (power), J11 VCCAUX (power), J13 VCCINT (power), K8 VCCPAUX (power), K12 VCCINT (power), L7 VCCPINT (power), L11 VCCAUX (power), L13 VCCINT (power), M8 VCCPAUX (power), M12 VCCINT (power), N7 VCCPINT (power), N9 VCCAUX (power), N11 VCCAUX (power), N13 VCCINT (power), P8 VCCPINT (power), P10 VCCAUX (power), P12 VCCINT (power), R7 VCCPINT (power), R9 VCCAUX (power), R13 VCCINT (power)
part I pins: A8 GND (power) "Ground Pin", A18 GND (power) "Ground Pin", B1 GND (power) "Ground Pin", B11 GND (power) "Ground Pin", C4 GND (power) "Ground Pin", C9 GND (power) "Ground Pin", C14 GND (power) "Ground Pin", D17 GND (power) "Ground Pin", E10 GND (power) "Ground Pin", E20 GND (power) "Ground Pin", F3 GND (power) "Ground Pin", F7 GND (power) "Ground Pin", G10 GND (power) "Ground Pin", G12 GND (power) "Ground Pin", G16 GND (power) "Ground Pin", H7 GND (power) "Ground Pin", H9 GND (power) "Ground Pin", H11 GND (power) "Ground Pin", H13 GND (power) "Ground Pin", H19 GND (power) "Ground Pin", J2 GND (power) "Ground Pin", J8 GND (power) "Ground Pin", J12 GND (power) "Ground Pin", K5 GND (power) "Ground Pin", K7 GND (power) "Ground Pin", K11 GND (power) "Ground Pin", K13 GND (power) "Ground Pin", K15 GND (power) "Ground Pin", L8 GND (power) "Ground Pin", L12 GND (power) "Ground Pin", L18 GND (power) "Ground Pin", M1 GND (power) "Ground Pin", M7 GND (power) "Ground Pin", M11 GND (power) "Ground Pin", M13 GND (power) "Ground Pin", N4 GND (power) "Ground Pin", N8 GND (power) "Ground Pin", N10 GND (power) "Ground Pin", N12 GND (power) "Ground Pin", N14 GND (power) "Ground Pin", P7 GND (power) "Ground Pin", P9 GND (power) "Ground Pin", P11 GND (power) "Ground Pin", P13 GND (power) "Ground Pin", P17 GND (power) "Ground Pin", R8 GND (power) "Ground Pin", R12 GND (power) "Ground Pin", R20 GND (power) "Ground Pin", T3 GND (power) "Ground Pin", T7 GND (power) "Ground Pin", T13 GND (power) "Ground Pin", U6 GND (power) "Ground Pin", U16 GND (power) "Ground Pin", V9 GND (power) "Ground Pin", V19 GND (power) "Ground Pin", W2 GND (power) "Ground Pin", W12 GND (power) "Ground Pin", Y5 GND (power) "Ground Pin", Y15 GND (power) "Ground Pin"
part A text: BANK 0
part B text: BANK 13
part C text: BANK 34
part D text: BANK 35
part E text: DDR PORT 502
part F text: Bank 500
part G text: Bank 501
part H text: PWR

## ZYNQ7010&7020
designator M?, comment ZYNQ_CORE
ZYNQ7010&7020 Core Board
footprint ZYNQ7010&7020
pins: J1_1 1, J1_2 2, J1_3 3, J1_4 4, J1_5 5, J1_6 6, J1_7 7, J1_8 8, J1_9 9, J1_10 10, J1_11 11, J1_12 12, J1_13 13, J1_14 14, J1_15 15, J1_16 16, J1_17 17, J1_18 18, J1_19 19, J1_20 20, J1_21 21, J1_22 22, J1_23 23, J1_24 24, J1_25 25, J1_26 26, J1_27 27, J1_28 28, J1_29 29, J1_30 30, J1_31 31, J1_32 32, J1_33 33, J1_34 34, J1_35 35, J1_36 36, J1_37 37, J1_38 38, J1_39 39, J1_40 40, J1_41 41, J1_42 42, J1_43 43, J1_44 44, J1_45 45, J1_46 46, J1_47 47, J1_48 48, J1_49 49, J1_50 50, J1_51 51, J1_52 52, J1_53 53, J1_54 54, J1_55 55, J1_56 56, J1_57 57, J1_58 58, J1_59 59, J1_60 60, J1_61 61, J1_62 62, J1_63 63, J1_64 64, J1_65 65, J1_66 66, J1_67 67, J1_68 68, J1_69 69, J1_70 70, J1_71 71, J1_72 72, J1_73 73, J1_74 74, J1_75 75, J1_76 76, J1_77 77, J1_78 78, J1_79 79, J1_80 80, J2_1 1, J2_2 2, J2_3 3, J2_4 4, J2_5 5, J2_6 6, J2_7 7, J2_8 8, J2_9 9, J2_10 10, J2_11 11, J2_12 12, J2_13 13, J2_14 14, J2_15 15, J2_16 16, J2_17 17, J2_18 18, J2_19 19, J2_20 20, J2_21 21, J2_22 22, J2_23 23, J2_24 24, J2_25 25, J2_26 26, J2_27 27, J2_28 28, J2_29 29, J2_30 30, J2_31 31, J2_32 32, J2_33 33, J2_34 34, J2_35 35, J2_36 36, J2_37 37, J2_38 38, J2_39 39, J2_40 40, J2_41 41, J2_42 42, J2_43 43, J2_44 44, J2_45 45, J2_46 46, J2_47 47, J2_48 48, J2_49 49, J2_50 50, J2_51 51, J2_52 52, J2_53 53, J2_54 54, J2_55 55, J2_56 56, J2_57 57, J2_58 58, J2_59 59, J2_60 60, J2_61 61, J2_62 62, J2_63 63, J2_64 64, J2_65 65, J2_66 66, J2_67 67, J2_68 68, J2_69 69, J2_70 70, J2_71 71, J2_72 72, J2_73 73, J2_74 74, J2_75 75, J2_76 76, J2_77 77, J2_78 78, J2_79 79, J2_80 80